# EAGLE library part TDA1541 (library Philips-semiconductors2)
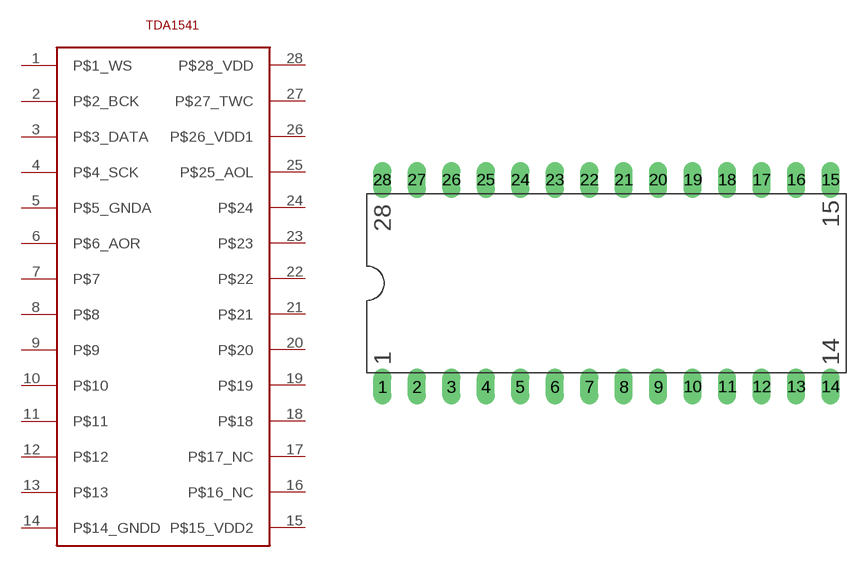
[diagram p13: symbol with the pads of DIP28; footprint DIP28]

Designator prefix -

## TDA1541DIP28  [DIP28]
1  P$1_WS
2  P$2_BCK
3  P$3_DATA
4  P$4_SCK
5  P$5_GNDA
6  P$6_AOR
7  P$7
8  P$8
9  P$9
10  P$10
11  P$11
12  P$12
13  P$13
14  P$14_GNDD
15  P$15_VDD2
16  P$16_NC
17  P$17_NC
18  P$18
19  P$19
20  P$20
21  P$21
22  P$22
23  P$23
24  P$24
25  P$25_AOL
26  P$26_VDD1
27  P$27_TWC
28  P$28_VDD

## Footprint DIP28 (pad centres in mm)
drill 0.813 long: 1 -16.51,-7.62; 2 -13.97,-7.62; 3 -11.43,-7.62; 4 -8.89,-7.62; 5 -6.35,-7.62; 6 -3.81,-7.62; 7 -1.27,-7.62; 8 1.27,-7.62; 9 3.81,-7.62; 10 6.35,-7.62; 11 8.89,-7.62; 12 11.43,-7.62; 13 13.97,-7.62; 14 16.51,-7.62; 15 16.51,7.62; 16 13.97,7.62; 17 11.43,7.62; 18 8.89,7.62; 19 6.35,7.62; 20 3.81,7.62; 21 1.27,7.62; 22 -1.27,7.62; 23 -3.81,7.62; 24 -6.35,7.62; 25 -8.89,7.62; 26 -11.43,7.62; 27 -13.97,7.62; 28 -16.51,7.62